# EAGLE library part L6210_2 (library L6210)
L6210 DUAL SCHOTTKY DIODE BRIDGE SGS-THOMSON
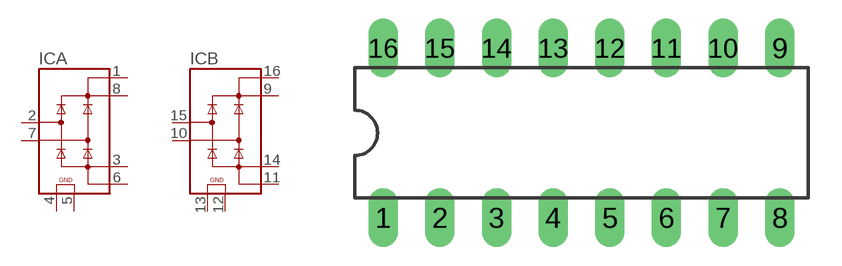
[diagram p1: symbol with the pads of DIL16; footprint DIL16]

Designator prefix IC; gates A=L6210_2 B=L6210_2

## L6210_2  [DIL16]
1  A:DC1+  pas
2  A:AC1  pas
3  A:DC1-  pas
4  A:GND1  pas
5  A:GND2  pas
6  A:DC2-  pas
7  A:AC2  pas
8  A:DC2+  pas
9  B:DC2+  pas
10  B:AC2  pas
11  B:DC2-  pas
12  B:GND2  pas
13  B:GND1  pas
14  B:DC1-  pas
15  B:AC1  pas
16  B:DC1+  pas

## Footprint DIL16 (pad centres in mm)
Dual In Line Package
drill 0.813 long: 1 -8.89,-3.81; 2 -6.35,-3.81; 3 -3.81,-3.81; 4 -1.27,-3.81; 5 1.27,-3.81; 6 3.81,-3.81; 7 6.35,-3.81; 8 8.89,-3.81; 9 8.89,3.81; 10 6.35,3.81; 11 3.81,3.81; 12 1.27,3.81; 13 -1.27,3.81; 14 -3.81,3.81; 15 -6.35,3.81; 16 -8.89,3.81